# Altium integrated library Capacitor - Aluminium TH.IntLib: 4591 symbols (part 39 of 68)
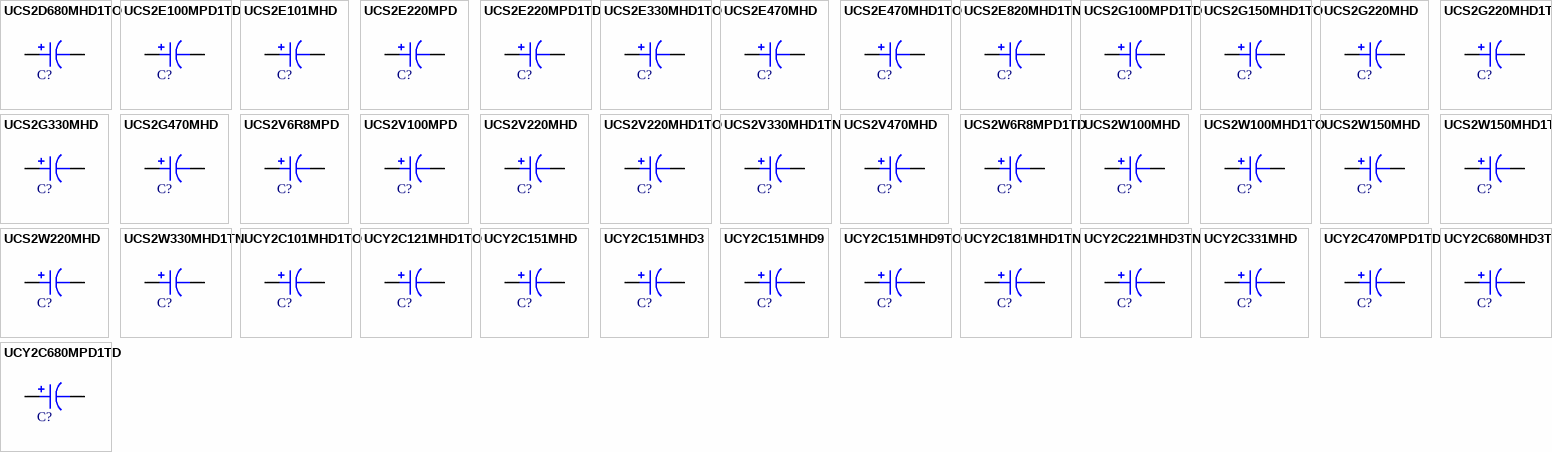
[diagram p152: symbols UCS2D680MHD1TO to UCY2C680MPD1TD]

## UCS2D680MHD1TO
designator C?, comment 68uF  (value not drawn)
CAP ALUM 68UF 20% 200V RADIAL; Part Number: UCS2D680MHD1TO; Manufacturer: Nichicon; TemperatureRange: -40C ~ 105C; Type: Polar; Ripple Current: 650mA @ 120Hz; Value: 68uF; PartId: 23007; Supplier 1: Digi-Key; Supplier Part Number 1: 493-4743-1-ND; ComponentLink1Description: Datasheet; ComponentLink1URL: http://nichicon-us.com/english/products/pdfs/e-ucs.pdf; ComponentLink2Description: Digi-Key Listing; ComponentLink2URL: https://www.digikey.com/product-detail/en/nichicon/UCS2D680MHD1TO/493-4743-1-ND/3128733; Tolerance: 20%; Voltage: 200V; Price: 0; Device Package: Radial, Can, 12.5mm
footprint CAP AL TH D12.5 L5 H21.5
pins: 1, 2

## UCS2E100MPD1TD
designator C?, comment 10uF  (value not drawn)
CAP ALUM 10UF 20% 250V RADIAL; Part Number: UCS2E100MPD1TD; Manufacturer: Nichicon; TemperatureRange: -40C ~ 105C; Type: Polar; Ripple Current: 175mA @ 120Hz; Value: 10uF; PartId: 25457; Supplier 1: Digi-Key; Supplier Part Number 1: 493-4744-3-ND; ComponentLink1Description: Datasheet; ComponentLink1URL: http://nichicon-us.com/english/products/pdfs/e-ucs.pdf; ComponentLink2Description: Digi-Key Listing; ComponentLink2URL: https://www.digikey.com/product-detail/en/nichicon/UCS2E100MPD1TD/493-4744-3-ND/3128718; Tolerance: 20%; Voltage: 250V; Price: 0.249; Device Package: Radial, Can, 10mm
footprint CAP AL TH D10 L5 H22
pins: 1, 2

## UCS2E101MHD
designator C?, comment 100uF  (value not drawn)
CAP ALUM 100UF 20% 250V RADIAL; Part Number: UCS2E101MHD; Manufacturer: Nichicon; TemperatureRange: -40C ~ 105C; Type: Polar; Ripple Current: 765mA @ 120Hz; Value: 100uF; PartId: 26614; Supplier 1: Digi-Key; Supplier Part Number 1: 493-5871-ND; ComponentLink1Description: Datasheet; ComponentLink1URL: http://nichicon-us.com/english/products/pdfs/e-ucs.pdf; ComponentLink2Description: Digi-Key Listing; ComponentLink2URL: https://www.digikey.com/product-detail/en/nichicon/UCS2E101MHD/493-5871-ND/3438505; Tolerance: 20%; Voltage: 250V; Price: 1.4; Device Package: Radial, Can, 16mm
footprint CAP AL TH D16 L7.5 H26.5
pins: 1, 2

## UCS2E220MPD
designator C?, comment 22uF  (value not drawn)
CAP ALUM 22UF 20% 250V RADIAL; Part Number: UCS2E220MPD; Manufacturer: Nichicon; TemperatureRange: -40C ~ 105C; Type: Polar; Ripple Current: 250mA @ 120Hz; Value: 22uF; PartId: 25584; Supplier 1: Digi-Key; Supplier Part Number 1: 493-5872-ND; ComponentLink1Description: Datasheet; ComponentLink1URL: http://nichicon-us.com/english/products/pdfs/e-ucs.pdf; ComponentLink2Description: Digi-Key Listing; ComponentLink2URL: https://www.digikey.com/product-detail/en/nichicon/UCS2E220MPD/493-5872-ND/3438506; Tolerance: 20%; Voltage: 250V; Price: 0.67; Device Package: Radial, Can, 10mm
footprint CAP AL TH D10 L5 H22
pins: 1, 2

## UCS2E220MPD1TD
designator C?, comment 22uF  (value not drawn)
CAP ALUM 22UF 20% 250V RADIAL; Part Number: UCS2E220MPD1TD; Manufacturer: Nichicon; TemperatureRange: -40C ~ 105C; Type: Polar; Ripple Current: 250mA @ 120Hz; Value: 22uF; PartId: 25466; Supplier 1: Digi-Key; Supplier Part Number 1: 493-4745-3-ND; ComponentLink1Description: Datasheet; ComponentLink1URL: http://nichicon-us.com/english/products/pdfs/e-ucs.pdf; ComponentLink2Description: Digi-Key Listing; ComponentLink2URL: https://www.digikey.com/product-detail/en/nichicon/UCS2E220MPD1TD/493-4745-3-ND/3128719; Tolerance: 20%; Voltage: 250V; Price: 0.2669; Device Package: Radial, Can, 10mm
footprint CAP AL TH D10 L5 H22
pins: 1, 2

## UCS2E330MHD1TO
designator C?, comment 33uF  (value not drawn)
CAP ALUM 33UF 20% 250V RADIAL; Part Number: UCS2E330MHD1TO; Manufacturer: Nichicon; TemperatureRange: -40C ~ 105C; Type: Polar; Ripple Current: 400mA @ 120Hz; Value: 33uF; PartId: 22993; Supplier 1: Digi-Key; Supplier Part Number 1: 493-4746-1-ND; ComponentLink1Description: Datasheet; ComponentLink1URL: http://nichicon-us.com/english/products/pdfs/e-ucs.pdf; ComponentLink2Description: Digi-Key Listing; ComponentLink2URL: https://www.digikey.com/product-detail/en/nichicon/UCS2E330MHD1TO/493-4746-1-ND/3128736; Tolerance: 20%; Voltage: 250V; Price: 0; Device Package: Radial, Can, 12.5mm
footprint CAP AL TH D12.5 L5 H21.5
pins: 1, 2

## UCS2E470MHD
designator C?, comment 47uF  (value not drawn)
CAP ALUM 47UF 20% 250V RADIAL; Part Number: UCS2E470MHD; Manufacturer: Nichicon; TemperatureRange: -40C ~ 105C; Type: Polar; Ripple Current: 490mA @ 120Hz; Value: 47uF; PartId: 22987; Supplier 1: Digi-Key; Supplier Part Number 1: 493-5873-ND; ComponentLink1Description: Datasheet; ComponentLink1URL: http://nichicon-us.com/english/products/pdfs/e-ucs.pdf; ComponentLink2Description: Digi-Key Listing; ComponentLink2URL: https://www.digikey.com/product-detail/en/nichicon/UCS2E470MHD/493-5873-ND/3438507; Tolerance: 20%; Voltage: 250V; Price: 0; Device Package: Radial, Can, 12.5mm
footprint CAP AL TH D12.5 L5 H21.5
pins: 1, 2

## UCS2E470MHD1TO
designator C?, comment 47uF  (value not drawn)
CAP ALUM 47UF 20% 250V RADIAL; Part Number: UCS2E470MHD1TO; Manufacturer: Nichicon; TemperatureRange: -40C ~ 105C; Type: Polar; Ripple Current: 490mA @ 120Hz; Value: 47uF; PartId: 23010; Supplier 1: Digi-Key; Supplier Part Number 1: 493-13287-1-ND; ComponentLink1Description: Datasheet; ComponentLink1URL: http://nichicon-us.com/english/products/pdfs/e-ucs.pdf; ComponentLink2Description: Digi-Key Listing; ComponentLink2URL: https://www.digikey.com/product-detail/en/nichicon/UCS2E470MHD1TO/493-13287-1-ND/4333030; Tolerance: 20%; Voltage: 250V; Price: 0; Device Package: Radial, Can, 12.5mm
footprint CAP AL TH D12.5 L5 H21.5
pins: 1, 2

## UCS2E820MHD1TN
designator C?, comment 82uF  (value not drawn)
CAP ALUM 82UF 20% 250V RADIAL; Part Number: UCS2E820MHD1TN; Manufacturer: Nichicon; TemperatureRange: -40C ~ 105C; Type: Polar; Ripple Current: 690mA @ 120Hz; Value: 82uF; PartId: 26378; Supplier 1: Digi-Key; Supplier Part Number 1: 493-13288-3-ND; ComponentLink1Description: Datasheet; ComponentLink1URL: http://nichicon-us.com/english/products/pdfs/e-ucs.pdf; ComponentLink2Description: Digi-Key Listing; ComponentLink2URL: https://www.digikey.com/product-detail/en/nichicon/UCS2E820MHD1TN/493-13288-3-ND/4332919; Tolerance: 20%; Voltage: 250V; Price: 0.7008; Device Package: Radial, Can, 16mm
footprint CAP AL TH D16 L7.5 H22
pins: 1, 2

## UCS2G100MPD1TD
designator C?, comment 10uF  (value not drawn)
CAP ALUM 10UF 20% 400V RADIAL; Part Number: UCS2G100MPD1TD; Manufacturer: Nichicon; TemperatureRange: -40C ~ 105C; Type: Polar; Ripple Current: 175mA @ 120Hz; Value: 10uF; PartId: 25799; Supplier 1: Digi-Key; Supplier Part Number 1: 493-7383-3-ND; ComponentLink1Description: Datasheet; ComponentLink1URL: http://nichicon-us.com/english/products/pdfs/e-ucs.pdf; ComponentLink2Description: Digi-Key Listing; ComponentLink2URL: https://www.digikey.com/product-detail/en/nichicon/UCS2G100MPD1TD/493-7383-3-ND/3768673; Tolerance: 20%; Voltage: 400V; Price: 0.2808; Device Package: Radial, Can, 10mm
footprint CAP AL TH D10 L5 H22
pins: 1, 2

## UCS2G150MHD1TO
designator C?, comment 15uF  (value not drawn)
CAP ALUM 15UF 20% 400V RADIAL; Part Number: UCS2G150MHD1TO; Manufacturer: Nichicon; TemperatureRange: -40C ~ 105C; Type: Polar; Ripple Current: 275mA @ 120Hz; Value: 15uF; PartId: 23178; Supplier 1: Digi-Key; Supplier Part Number 1: 493-7384-3-ND; ComponentLink1Description: Datasheet; ComponentLink1URL: http://nichicon-us.com/english/products/pdfs/e-ucs.pdf; ComponentLink2Description: Digi-Key Listing; ComponentLink2URL: https://www.digikey.com/product-detail/en/nichicon/UCS2G150MHD1TO/493-7384-3-ND/3768676; Tolerance: 20%; Voltage: 400V; Price: 0.3715; Device Package: Radial, Can, 12.5mm
footprint CAP AL TH D12.5 L5 H22
pins: 1, 2

## UCS2G220MHD
designator C?, comment 22uF  (value not drawn)
CAP ALUM 22UF 20% 400V RADIAL; Part Number: UCS2G220MHD; Manufacturer: Nichicon; TemperatureRange: -40C ~ 105C; Type: Polar; Ripple Current: 380mA @ 120Hz; Value: 22uF; PartId: 22995; Supplier 1: Digi-Key; Supplier Part Number 1: 493-5875-ND; ComponentLink1Description: Datasheet; ComponentLink1URL: http://nichicon-us.com/english/products/pdfs/e-ucs.pdf; ComponentLink2Description: Digi-Key Listing; ComponentLink2URL: https://www.digikey.com/product-detail/en/nichicon/UCS2G220MHD/493-5875-ND/3438508; Tolerance: 20%; Voltage: 400V; Price: 0; Device Package: Radial, Can, 12.5mm
footprint CAP AL TH D12.5 L5 H21.5
pins: 1, 2

## UCS2G220MHD1TO
designator C?, comment 22uF  (value not drawn)
CAP ALUM 22UF 20% 400V RADIAL; Part Number: UCS2G220MHD1TO; Manufacturer: Nichicon; TemperatureRange: -40C ~ 105C; Type: Polar; Ripple Current: 380mA @ 120Hz; Value: 22uF; PartId: 23459; Supplier 1: Digi-Key; Supplier Part Number 1: 493-13289-1-ND; ComponentLink1Description: Datasheet; ComponentLink1URL: http://nichicon-us.com/english/products/pdfs/e-ucs.pdf; ComponentLink2Description: Digi-Key Listing; ComponentLink2URL: https://www.digikey.com/product-detail/en/nichicon/UCS2G220MHD1TO/493-13289-1-ND/4333032; Tolerance: 20%; Voltage: 400V; Price: 1.05; Device Package: Radial, Can, 12.5mm
footprint CAP AL TH D12.5 L5 H22
pins: 1, 2

## UCS2G330MHD
designator C?, comment 33uF  (value not drawn)
CAP ALUM 33UF 20% 400V RADIAL; Part Number: UCS2G330MHD; Manufacturer: Nichicon; TemperatureRange: -40C ~ 105C; Type: Polar; Ripple Current: 450mA @ 120Hz; Value: 33uF; PartId: 26419; Supplier 1: Digi-Key; Supplier Part Number 1: 493-5876-ND; ComponentLink1Description: Datasheet; ComponentLink1URL: http://nichicon-us.com/english/products/pdfs/e-ucs.pdf; ComponentLink2Description: Digi-Key Listing; ComponentLink2URL: https://www.digikey.com/product-detail/en/nichicon/UCS2G330MHD/493-5876-ND/3438509; Tolerance: 20%; Voltage: 400V; Price: 1.21; Device Package: Radial, Can, 16mm
footprint CAP AL TH D16 L7.5 H22
pins: 1, 2

## UCS2G470MHD
designator C?, comment 47uF  (value not drawn)
CAP ALUM 47UF 20% 400V RADIAL; Part Number: UCS2G470MHD; Manufacturer: Nichicon; TemperatureRange: -40C ~ 105C; Type: Polar; Ripple Current: 590mA @ 120Hz; Value: 47uF; PartId: 26671; Supplier 1: Digi-Key; Supplier Part Number 1: 493-5877-ND; ComponentLink1Description: Datasheet; ComponentLink1URL: http://nichicon-us.com/english/products/pdfs/e-ucs.pdf; ComponentLink2Description: Digi-Key Listing; ComponentLink2URL: https://www.digikey.com/product-detail/en/nichicon/UCS2G470MHD/493-5877-ND/3438510; Tolerance: 20%; Voltage: 400V; Price: 1.73; Device Package: Radial, Can, 16mm
footprint CAP AL TH D16 L7.5 H26.5
pins: 1, 2

## UCS2V6R8MPD
designator C?, comment 6.8uF  (value not drawn)
CAP ALUM 6.8UF 20% 350V RADIAL; Part Number: UCS2V6R8MPD; Manufacturer: Nichicon; TemperatureRange: -40C ~ 105C; Type: Polar; Ripple Current: 140mA @ 120Hz; Value: 6.8uF; PartId: 25370; Supplier 1: Digi-Key; Supplier Part Number 1: 493-14365-ND; ComponentLink1Description: Datasheet; ComponentLink1URL: http://nichicon-us.com/english/products/pdfs/e-ucs.pdf; ComponentLink2Description: Digi-Key Listing; ComponentLink2URL: https://www.digikey.com/product-detail/en/nichicon/UCS2V6R8MPD/493-14365-ND/4991894; Tolerance: 20%; Voltage: 350V; Price: 0.72; Device Package: Radial, Can, 10mm
footprint CAP AL TH D10 L5 H17.5
pins: 1, 2

## UCS2V100MPD
designator C?, comment 10uF  (value not drawn)
CAP ALUM 10UF 20% 350V RADIAL; Part Number: UCS2V100MPD; Manufacturer: Nichicon; TemperatureRange: -40C ~ 105C; Type: Polar; Ripple Current: 175mA @ 120Hz; Value: 10uF; PartId: 25631; Supplier 1: Digi-Key; Supplier Part Number 1: 493-5880-ND; ComponentLink1Description: Datasheet; ComponentLink1URL: http://nichicon-us.com/english/products/pdfs/e-ucs.pdf; ComponentLink2Description: Digi-Key Listing; ComponentLink2URL: https://www.digikey.com/product-detail/en/nichicon/UCS2V100MPD/493-5880-ND/3438513; Tolerance: 20%; Voltage: 350V; Price: 0.72; Device Package: Radial, Can, 10mm
footprint CAP AL TH D10 L5 H22
pins: 1, 2

## UCS2V220MHD
designator C?, comment 22uF  (value not drawn)
CAP ALUM 22UF 20% 350V RADIAL; Part Number: UCS2V220MHD; Manufacturer: Nichicon; TemperatureRange: -40C ~ 105C; Type: Polar; Ripple Current: 325mA @ 120Hz; Value: 22uF; PartId: 22984; Supplier 1: Digi-Key; Supplier Part Number 1: 493-5881-ND; ComponentLink1Description: Datasheet; ComponentLink1URL: http://nichicon-us.com/english/products/pdfs/e-ucs.pdf; ComponentLink2Description: Digi-Key Listing; ComponentLink2URL: https://www.digikey.com/product-detail/en/nichicon/UCS2V220MHD/493-5881-ND/3438514; Tolerance: 20%; Voltage: 350V; Price: 0; Device Package: Radial, Can, 12.5mm
footprint CAP AL TH D12.5 L5 H21.5
pins: 1, 2

## UCS2V220MHD1TO
designator C?, comment 22uF  (value not drawn)
CAP ALUM 22UF 20% 350V RADIAL; Part Number: UCS2V220MHD1TO; Manufacturer: Nichicon; TemperatureRange: -40C ~ 105C; Type: Polar; Ripple Current: 325mA @ 120Hz; Value: 22uF; PartId: 23436; Supplier 1: Digi-Key; Supplier Part Number 1: 493-13296-1-ND; ComponentLink1Description: Datasheet; ComponentLink1URL: http://nichicon-us.com/english/products/pdfs/e-ucs.pdf; ComponentLink2Description: Digi-Key Listing; ComponentLink2URL: https://www.digikey.com/product-detail/en/nichicon/UCS2V220MHD1TO/493-13296-1-ND/4333039; Tolerance: 20%; Voltage: 350V; Price: 1.01; Device Package: Radial, Can, 12.5mm
footprint CAP AL TH D12.5 L5 H22
pins: 1, 2

## UCS2V330MHD1TN
designator C?, comment 33uF  (value not drawn)
CAP ALUM 33UF 20% 350V RADIAL; Part Number: UCS2V330MHD1TN; Manufacturer: Nichicon; TemperatureRange: -40C ~ 105C; Type: Polar; Ripple Current: 450mA @ 120Hz; Value: 33uF; PartId: 26373; Supplier 1: Digi-Key; Supplier Part Number 1: 493-4749-3-ND; ComponentLink1Description: Datasheet; ComponentLink1URL: http://nichicon-us.com/english/products/pdfs/e-ucs.pdf; ComponentLink2Description: Digi-Key Listing; ComponentLink2URL: https://www.digikey.com/product-detail/en/nichicon/UCS2V330MHD1TN/493-4749-3-ND/3128723; Tolerance: 20%; Voltage: 350V; Price: 0.614; Device Package: Radial, Can, 16mm
footprint CAP AL TH D16 L7.5 H22
pins: 1, 2

## UCS2V470MHD
designator C?, comment 47uF  (value not drawn)
CAP ALUM 47UF 20% 350V RADIAL; Part Number: UCS2V470MHD; Manufacturer: Nichicon; TemperatureRange: -40C ~ 105C; Type: Polar; Ripple Current: 540mA @ 120Hz; Value: 47uF; PartId: 26439; Supplier 1: Digi-Key; Supplier Part Number 1: 493-14944-ND; ComponentLink1Description: Datasheet; ComponentLink1URL: http://nichicon-us.com/english/products/pdfs/e-ucs.pdf; ComponentLink2Description: Digi-Key Listing; ComponentLink2URL: https://www.digikey.com/product-detail/en/nichicon/UCS2V470MHD/493-14944-ND/4991891; Tolerance: 20%; Voltage: 350V; Price: 1.37; Device Package: Radial, Can, 16mm
footprint CAP AL TH D16 L7.5 H22
pins: 1, 2

## UCS2W6R8MPD1TD
designator C?, comment 6.8uF  (value not drawn)
CAP ALUM 6.8UF 20% 450V RADIAL; Part Number: UCS2W6R8MPD1TD; Manufacturer: Nichicon; TemperatureRange: -25C ~ 105C; Type: Polar; Ripple Current: 140mA @ 120Hz; Value: 6.8uF; PartId: 25781; Supplier 1: Digi-Key; Supplier Part Number 1: 493-7386-3-ND; ComponentLink1Description: Datasheet; ComponentLink1URL: http://nichicon-us.com/english/products/pdfs/e-ucs.pdf; ComponentLink2Description: Digi-Key Listing; ComponentLink2URL: https://www.digikey.com/product-detail/en/nichicon/UCS2W6R8MPD1TD/493-7386-3-ND/3768682; Tolerance: 20%; Voltage: 450V; Price: 0.2498; Device Package: Radial, Can, 10mm
footprint CAP AL TH D10 L5 H22
pins: 1, 2

## UCS2W100MHD
designator C?, comment 10uF  (value not drawn)
CAP ALUM 10UF 20% 450V RADIAL; Part Number: UCS2W100MHD; Manufacturer: Nichicon; TemperatureRange: -25C ~ 105C; Type: Polar; Ripple Current: 225mA @ 120Hz; Value: 10uF; PartId: 22963; Supplier 1: Digi-Key; Supplier Part Number 1: 493-5882-ND; ComponentLink1Description: Datasheet; ComponentLink1URL: http://nichicon-us.com/english/products/pdfs/e-ucs.pdf; ComponentLink2Description: Digi-Key Listing; ComponentLink2URL: https://www.digikey.com/product-detail/en/nichicon/UCS2W100MHD/493-5882-ND/3438515; Tolerance: 20%; Voltage: 450V; Price: 0; Device Package: Radial, Can, 12.5mm
footprint CAP AL TH D12.5 L5 H21.5
pins: 1, 2

## UCS2W100MHD1TO
designator C?, comment 10uF  (value not drawn)
CAP ALUM 10UF 20% 450V RADIAL; Part Number: UCS2W100MHD1TO; Manufacturer: Nichicon; TemperatureRange: -25C ~ 105C; Type: Polar; Ripple Current: 225mA @ 120Hz; Value: 10uF; PartId: 23168; Supplier 1: Digi-Key; Supplier Part Number 1: 493-13298-3-ND; ComponentLink1Description: Datasheet; ComponentLink1URL: http://nichicon-us.com/english/products/pdfs/e-ucs.pdf; ComponentLink2Description: Digi-Key Listing; ComponentLink2URL: https://www.digikey.com/product-detail/en/nichicon/UCS2W100MHD1TO/493-13298-3-ND/4332929; Tolerance: 20%; Voltage: 450V; Price: 0.3394; Device Package: Radial, Can, 12.5mm
footprint CAP AL TH D12.5 L5 H22
pins: 1, 2

## UCS2W150MHD
designator C?, comment 15uF  (value not drawn)
CAP ALUM 15UF 20% 450V RADIAL; Part Number: UCS2W150MHD; Manufacturer: Nichicon; TemperatureRange: -25C ~ 105C; Type: Polar; Ripple Current: 300mA @ 120Hz; Value: 15uF; PartId: 23708; Supplier 1: Digi-Key; Supplier Part Number 1: 493-5883-ND; ComponentLink1Description: Datasheet; ComponentLink1URL: http://nichicon-us.com/english/products/pdfs/e-ucs.pdf; ComponentLink2Description: Digi-Key Listing; ComponentLink2URL: https://www.digikey.com/product-detail/en/nichicon/UCS2W150MHD/493-5883-ND/3438516; Tolerance: 20%; Voltage: 450V; Price: 1.16; Device Package: Radial, Can, 12.5mm
footprint CAP AL TH D12.5 L5 H26.5
pins: 1, 2

## UCS2W150MHD1TO
designator C?, comment 15uF  (value not drawn)
CAP ALUM 15UF 20% 450V RADIAL; Part Number: UCS2W150MHD1TO; Manufacturer: Nichicon; TemperatureRange: -25C ~ 105C; Type: Polar; Ripple Current: 300mA @ 120Hz; Value: 15uF; PartId: 24099; Supplier 1: Digi-Key; Supplier Part Number 1: 493-13299-1-ND; ComponentLink1Description: Datasheet; ComponentLink1URL: http://nichicon-us.com/english/products/pdfs/e-ucs.pdf; ComponentLink2Description: Digi-Key Listing; ComponentLink2URL: https://www.digikey.com/product-detail/en/nichicon/UCS2W150MHD1TO/493-13299-1-ND/4333042; Tolerance: 20%; Voltage: 450V; Price: 1.3; Device Package: Radial, Can, 12.5mm
footprint CAP AL TH D12.5 L5 H27
pins: 1, 2

## UCS2W220MHD
designator C?, comment 22uF  (value not drawn)
CAP ALUM 22UF 20% 450V RADIAL; Part Number: UCS2W220MHD; Manufacturer: Nichicon; TemperatureRange: -25C ~ 105C; Type: Polar; Ripple Current: 365mA @ 120Hz; Value: 22uF; PartId: 26409; Supplier 1: Digi-Key; Supplier Part Number 1: 493-5884-ND; ComponentLink1Description: Datasheet; ComponentLink1URL: http://nichicon-us.com/english/products/pdfs/e-ucs.pdf; ComponentLink2Description: Digi-Key Listing; ComponentLink2URL: https://www.digikey.com/product-detail/en/nichicon/UCS2W220MHD/493-5884-ND/3438517; Tolerance: 20%; Voltage: 450V; Price: 1.03; Device Package: Radial, Can, 16mm
footprint CAP AL TH D16 L7.5 H22
pins: 1, 2

## UCS2W330MHD1TN
designator C?, comment 33uF  (value not drawn)
CAP ALUM 33UF 20% 450V RADIAL; Part Number: UCS2W330MHD1TN; Manufacturer: Nichicon; TemperatureRange: -25C ~ 105C; Type: Polar; Ripple Current: 490mA @ 120Hz; Value: 33uF; PartId: 26528; Supplier 1: Digi-Key; Supplier Part Number 1: 493-4754-3-ND; ComponentLink1Description: Datasheet; ComponentLink1URL: http://nichicon-us.com/english/products/pdfs/e-ucs.pdf; ComponentLink2Description: Digi-Key Listing; ComponentLink2URL: https://www.digikey.com/product-detail/en/nichicon/UCS2W330MHD1TN/493-4754-3-ND/3128728; Tolerance: 20%; Voltage: 450V; Price: 0.8348; Device Package: Radial, Can, 16mm
footprint CAP AL TH D16 L7.5 H26.5
pins: 1, 2

## UCY2C101MHD1TO
designator C?, comment 100uF  (value not drawn)
CAP ALUM 100UF 20% 160V RADIAL; Part Number: UCY2C101MHD1TO; Manufacturer: Nichicon; TemperatureRange: -40C ~ 105C; Type: Polar; Ripple Current: 645mA; Value: 100uF; PartId: 23038; Supplier 1: Digi-Key; Supplier Part Number 1: 493-4784-1-ND; ComponentLink1Description: Datasheet; ComponentLink1URL: http://nichicon-us.com/english/products/pdfs/e-ucy.pdf; ComponentLink2Description: Digi-Key Listing; ComponentLink2URL: https://www.digikey.com/product-detail/en/nichicon/UCY2C101MHD1TO/493-4784-1-ND/3129121; Tolerance: 20%; Voltage: 160V; Price: 0; Device Package: Radial, Can, 12.5mm
footprint CAP AL TH D12.5 L5 H21.5
pins: 1, 2

## UCY2C121MHD1TO
designator C?, comment 120uF  (value not drawn)
CAP ALUM 120UF 20% 160V RADIAL; Part Number: UCY2C121MHD1TO; Manufacturer: Nichicon; TemperatureRange: -40C ~ 105C; Type: Polar; Ripple Current: 760mA @ 120Hz; Value: 120uF; PartId: 23638; Supplier 1: Digi-Key; Supplier Part Number 1: 493-4785-3-ND; ComponentLink1Description: Datasheet; ComponentLink1URL: http://nichicon-us.com/english/products/pdfs/e-ucy.pdf; ComponentLink2Description: Digi-Key Listing; ComponentLink2URL: https://www.digikey.com/product-detail/en/nichicon/UCY2C121MHD1TO/493-4785-3-ND/3129790; Tolerance: 20%; Voltage: 160V; Price: 0.5295; Device Package: Radial, Can, 12.5mm
footprint CAP AL TH D12.5 L5 H26.5
pins: 1, 2

## UCY2C151MHD
designator C?, comment 150uF  (value not drawn)
CAP ALUM 150UF 20% 160V RADIAL; Part Number: UCY2C151MHD; Manufacturer: Nichicon; TemperatureRange: -40C ~ 105C; Type: Polar; Ripple Current: 905mA @ 120Hz; Value: 150uF; PartId: 24356; Supplier 1: Digi-Key; Supplier Part Number 1: 493-5445-ND; ComponentLink1Description: Datasheet; ComponentLink1URL: http://nichicon-us.com/english/products/pdfs/e-ucy.pdf; ComponentLink2Description: Digi-Key Listing; ComponentLink2URL: https://www.digikey.com/product-detail/en/nichicon/UCY2C151MHD/493-5445-ND/2597670; Tolerance: 20%; Voltage: 160V; Price: 1.46; Device Package: Radial, Can, 12.5mm
footprint CAP AL TH D12.5 L5 H35.5
pins: 1, 2

## UCY2C151MHD3
designator C?, comment 150uF  (value not drawn)
CAP ALUM 150UF 20% 160V RADIAL; Part Number: UCY2C151MHD3; Manufacturer: Nichicon; TemperatureRange: -40C ~ 105C; Type: Polar; Ripple Current: 945mA @ 120Hz; Value: 150uF; PartId: 26488; Supplier 1: Digi-Key; Supplier Part Number 1: UCY2C151MHD3-ND; ComponentLink1Description: Datasheet; ComponentLink1URL: http://nichicon-us.com/english/products/pdfs/e-ucy.pdf; ComponentLink2Description: Digi-Key Listing; ComponentLink2URL: https://www.digikey.com/product-detail/en/nichicon/UCY2C151MHD3/UCY2C151MHD3-ND/2597671; Tolerance: 20%; Voltage: 160V; Price: 1.84; Device Package: Radial, Can, 16mm
footprint CAP AL TH D16 L7.5 H22
pins: 1, 2

## UCY2C151MHD9
designator C?, comment 150uF  (value not drawn)
CAP ALUM 150UF 20% 160V RADIAL; Part Number: UCY2C151MHD9; Manufacturer: Nichicon; TemperatureRange: -40C ~ 105C; Type: Polar; Ripple Current: 760mA @ 120Hz; Value: 150uF; PartId: 23729; Supplier 1: Digi-Key; Supplier Part Number 1: 493-6961-ND; ComponentLink1Description: Datasheet; ComponentLink1URL: http://nichicon-us.com/english/products/pdfs/e-ucy.pdf; ComponentLink2Description: Digi-Key Listing; ComponentLink2URL: https://www.digikey.com/product-detail/en/nichicon/UCY2C151MHD9/493-6961-ND/3664354; Tolerance: 20%; Voltage: 160V; Price: 1.4; Device Package: Radial, Can, 12.5mm
footprint CAP AL TH D12.5 L5 H26.5
pins: 1, 2

## UCY2C151MHD9TO
designator C?, comment 150uF  (value not drawn)
CAP ALUM 150UF 20% 160V RADIAL; Part Number: UCY2C151MHD9TO; Manufacturer: Nichicon; TemperatureRange: -40C ~ 105C; Type: Polar; Ripple Current: 760mA; Value: 150uF; PartId: 23741; Supplier 1: Digi-Key; Supplier Part Number 1: 493-13302-1-ND; ComponentLink1Description: Datasheet; ComponentLink1URL: http://nichicon-us.com/english/products/pdfs/e-ucy.pdf; ComponentLink2Description: Digi-Key Listing; ComponentLink2URL: https://www.digikey.com/product-detail/en/nichicon/UCY2C151MHD9TO/493-13302-1-ND/4333061; Tolerance: 20%; Voltage: 160V; Price: 1.57; Device Package: Radial, Can, 12.5mm
footprint CAP AL TH D12.5 L5 H26.5
pins: 1, 2

## UCY2C181MHD1TN
designator C?, comment 180uF  (value not drawn)
CAP ALUM 180UF 20% 160V RADIAL; Part Number: UCY2C181MHD1TN; Manufacturer: Nichicon; TemperatureRange: -40C ~ 105C; Type: Polar; Ripple Current: 1A @ 120Hz; Value: 180uF; PartId: 26384; Supplier 1: Digi-Key; Supplier Part Number 1: 493-4787-3-ND; ComponentLink1Description: Datasheet; ComponentLink1URL: http://nichicon-us.com/english/products/pdfs/e-ucy.pdf; ComponentLink2Description: Digi-Key Listing; ComponentLink2URL: https://www.digikey.com/product-detail/en/nichicon/UCY2C181MHD1TN/493-4787-3-ND/3129792; Tolerance: 20%; Voltage: 160V; Price: 0.8046; Device Package: Radial, Can, 16mm
footprint CAP AL TH D16 L7.5 H22
pins: 1, 2

## UCY2C221MHD3TN
designator C?, comment 220uF  (value not drawn)
CAP ALUM 220UF 20% 160V RADIAL; Part Number: UCY2C221MHD3TN; Manufacturer: Nichicon; TemperatureRange: -40C ~ 105C; Type: Polar; Ripple Current: 1.185A @ 120Hz; Value: 220uF; PartId: 26532; Supplier 1: Digi-Key; Supplier Part Number 1: 493-4788-3-ND; ComponentLink1Description: Datasheet; ComponentLink1URL: http://nichicon-us.com/english/products/pdfs/e-ucy.pdf; ComponentLink2Description: Digi-Key Listing; ComponentLink2URL: https://www.digikey.com/product-detail/en/nichicon/UCY2C221MHD3TN/493-4788-3-ND/3129793; Tolerance: 20%; Voltage: 160V; Price: 0.9454; Device Package: Radial, Can, 16mm
footprint CAP AL TH D16 L7.5 H26.5
pins: 1, 2

## UCY2C331MHD
designator C?, comment 330uF  (value not drawn)
CAP ALUM 330UF 20% 160V RADIAL; Part Number: UCY2C331MHD; Manufacturer: Nichicon; TemperatureRange: -40C ~ 105C; Type: Polar; Ripple Current: 1.51A @ 120Hz; Value: 330uF; PartId: 27209; Supplier 1: Digi-Key; Supplier Part Number 1: 493-5447-ND; ComponentLink1Description: Datasheet; ComponentLink1URL: http://nichicon-us.com/english/products/pdfs/e-ucy.pdf; ComponentLink2Description: Digi-Key Listing; ComponentLink2URL: https://www.digikey.com/product-detail/en/nichicon/UCY2C331MHD/493-5447-ND/2597679; Tolerance: 20%; Voltage: 160V; Price: 2.21; Device Package: Radial, Can, 16mm
footprint CAP AL TH D16 L7.5 H33.5
pins: 1, 2

## UCY2C470MPD1TD
designator C?, comment 47uF  (value not drawn)
CAP ALUM 47UF 20% 160V RADIAL; Part Number: UCY2C470MPD1TD; Manufacturer: Nichicon; TemperatureRange: -40C ~ 105C; Type: Polar; Ripple Current: 375mA @ 120Hz; Value: 47uF; PartId: 25477; Supplier 1: Digi-Key; Supplier Part Number 1: 493-4793-3-ND; ComponentLink1Description: Datasheet; ComponentLink1URL: http://nichicon-us.com/english/products/pdfs/e-ucy.pdf; ComponentLink2Description: Digi-Key Listing; ComponentLink2URL: https://www.digikey.com/product-detail/en/nichicon/UCY2C470MPD1TD/493-4793-3-ND/3129798; Tolerance: 20%; Voltage: 160V; Price: 0.308; Device Package: Radial, Can, 10mm
footprint CAP AL TH D10 L5 H22
pins: 1, 2

## UCY2C680MHD3TO
designator C?, comment 68uF  (value not drawn)
CAP ALUM 68UF 20% 160V RADIAL; Part Number: UCY2C680MHD3TO; Manufacturer: Nichicon; TemperatureRange: -40C ~ 105C; Type: Polar; Ripple Current: 590mA; Value: 68uF; PartId: 23024; Supplier 1: Digi-Key; Supplier Part Number 1: 493-4795-1-ND; ComponentLink1Description: Datasheet; ComponentLink1URL: http://nichicon-us.com/english/products/pdfs/e-ucy.pdf; ComponentLink2Description: Digi-Key Listing; ComponentLink2URL: https://www.digikey.com/product-detail/en/nichicon/UCY2C680MHD3TO/493-4795-1-ND/3129132; Tolerance: 20%; Voltage: 160V; Price: 0; Device Package: Radial, Can, 12.5mm
footprint CAP AL TH D12.5 L5 H21.5
pins: 1, 2

## UCY2C680MPD1TD
designator C?, comment 68uF  (value not drawn)
CAP ALUM 68UF 20% 160V RADIAL; Part Number: UCY2C680MPD1TD; Manufacturer: Nichicon; TemperatureRange: -40C ~ 105C; Type: Polar; Ripple Current: 455mA @ 120Hz; Value: 68uF; PartId: 26023; Supplier 1: Digi-Key; Supplier Part Number 1: 493-4796-3-ND; ComponentLink1Description: Datasheet; ComponentLink1URL: http://nichicon-us.com/english/products/pdfs/e-ucy.pdf; ComponentLink2Description: Digi-Key Listing; ComponentLink2URL: https://www.digikey.com/product-detail/en/nichicon/UCY2C680MPD1TD/493-4796-3-ND/3129801; Tolerance: 20%; Voltage: 160V; Price: 0.4014; Device Package: Radial, Can, 10mm
footprint CAP AL TH D10 L5 H30
pins: 1, 2

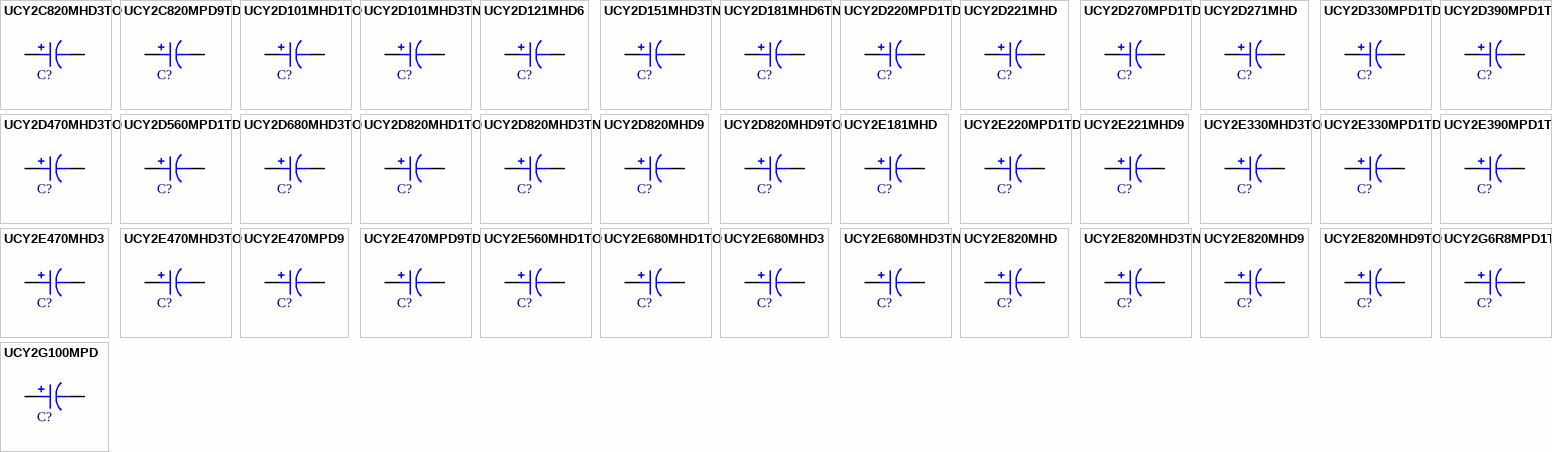
[diagram p64: symbols UCY2C820MHD3TO to UCY2G100MPD]

## UCY2C820MHD3TO
designator C?, comment 82uF  (value not drawn)
CAP ALUM 82UF 20% 160V RADIAL; Part Number: UCY2C820MHD3TO; Manufacturer: Nichicon; TemperatureRange: -40C ~ 105C; Type: Polar; Ripple Current: 640mA; Value: 82uF; PartId: 23032; Supplier 1: Digi-Key; Supplier Part Number 1: 493-4797-1-ND; ComponentLink1Description: Datasheet; ComponentLink1URL: http://nichicon-us.com/english/products/pdfs/e-ucy.pdf; ComponentLink2Description: Digi-Key Listing; ComponentLink2URL: https://www.digikey.com/product-detail/en/nichicon/UCY2C820MHD3TO/493-4797-1-ND/3129134; Tolerance: 20%; Voltage: 160V; Price: 0; Device Package: Radial, Can, 12.5mm
footprint CAP AL TH D12.5 L5 H21.5
pins: 1, 2

## UCY2C820MPD9TD
designator C?, comment 82uF  (value not drawn)
CAP ALUM 82UF 20% 160V RADIAL; Part Number: UCY2C820MPD9TD; Manufacturer: Nichicon; TemperatureRange: -40C ~ 105C; Type: Polar; Ripple Current: 455mA @ 120Hz; Value: 82uF; PartId: 26028; Supplier 1: Digi-Key; Supplier Part Number 1: 493-13092-3-ND; ComponentLink1Description: Datasheet; ComponentLink1URL: http://nichicon-us.com/english/products/pdfs/e-ucy.pdf; ComponentLink2Description: Digi-Key Listing; ComponentLink2URL: https://www.digikey.com/product-detail/en/nichicon/UCY2C820MPD9TD/493-13092-3-ND/4332723; Tolerance: 20%; Voltage: 160V; Price: 0.4383; Device Package: Radial, Can, 10mm
footprint CAP AL TH D10 L5 H30
pins: 1, 2

## UCY2D101MHD1TO
designator C?, comment 100uF  (value not drawn)
CAP ALUM 100UF 20% 200V RADIAL; Part Number: UCY2D101MHD1TO; Manufacturer: Nichicon; TemperatureRange: -40C ~ 105C; Type: Polar; Ripple Current: 695mA @ 120Hz; Value: 100uF; PartId: 23641; Supplier 1: Digi-Key; Supplier Part Number 1: 493-4798-3-ND; ComponentLink1Description: Datasheet; ComponentLink1URL: http://nichicon-us.com/english/products/pdfs/e-ucy.pdf; ComponentLink2Description: Digi-Key Listing; ComponentLink2URL: https://www.digikey.com/product-detail/en/nichicon/UCY2D101MHD1TO/493-4798-3-ND/3129803; Tolerance: 20%; Voltage: 200V; Price: 0.6691; Device Package: Radial, Can, 12.5mm
footprint CAP AL TH D12.5 L5 H26.5
pins: 1, 2

## UCY2D101MHD3TN
designator C?, comment 100uF  (value not drawn)
CAP ALUM 100UF 20% 200V RADIAL; Part Number: UCY2D101MHD3TN; Manufacturer: Nichicon; TemperatureRange: -40C ~ 105C; Type: Polar; Ripple Current: 710mA @ 120Hz; Value: 100uF; PartId: 26395; Supplier 1: Digi-Key; Supplier Part Number 1: 493-13304-3-ND; ComponentLink1Description: Datasheet; ComponentLink1URL: http://nichicon-us.com/english/products/pdfs/e-ucy.pdf; ComponentLink2Description: Digi-Key Listing; ComponentLink2URL: https://www.digikey.com/product-detail/en/nichicon/UCY2D101MHD3TN/493-13304-3-ND/4332935; Tolerance: 20%; Voltage: 200V; Price: 0.8528; Device Package: Radial, Can, 16mm
footprint CAP AL TH D16 L7.5 H22
pins: 1, 2

## UCY2D121MHD6
designator C?, comment 120uF  (value not drawn)
CAP ALUM 120UF 20% 200V RADIAL; Part Number: UCY2D121MHD6; Manufacturer: Nichicon; TemperatureRange: -40C ~ 105C; Type: Polar; Ripple Current: 810mA @ 120Hz; Value: 120uF; PartId: 24359; Supplier 1: Digi-Key; Supplier Part Number 1: 493-5451-ND; ComponentLink1Description: Datasheet; ComponentLink1URL: http://nichicon-us.com/english/products/pdfs/e-ucy.pdf; ComponentLink2Description: Digi-Key Listing; ComponentLink2URL: https://www.digikey.com/product-detail/en/nichicon/UCY2D121MHD6/493-5451-ND/2597693; Tolerance: 20%; Voltage: 200V; Price: 1.55; Device Package: Radial, Can, 12.5mm
footprint CAP AL TH D12.5 L5 H35.5
pins: 1, 2

## UCY2D151MHD3TN
designator C?, comment 150uF  (value not drawn)
CAP ALUM 150UF 20% 200V RADIAL; Part Number: UCY2D151MHD3TN; Manufacturer: Nichicon; TemperatureRange: -40C ~ 105C; Type: Polar; Ripple Current: 945mA @ 120Hz; Value: 150uF; PartId: 26535; Supplier 1: Digi-Key; Supplier Part Number 1: 493-4800-3-ND; ComponentLink1Description: Datasheet; ComponentLink1URL: http://nichicon-us.com/english/products/pdfs/e-ucy.pdf; ComponentLink2Description: Digi-Key Listing; ComponentLink2URL: https://www.digikey.com/product-detail/en/nichicon/UCY2D151MHD3TN/493-4800-3-ND/3129805; Tolerance: 20%; Voltage: 200V; Price: 0.9599; Device Package: Radial, Can, 16mm
footprint CAP AL TH D16 L7.5 H26.5
pins: 1, 2

## UCY2D181MHD6TN
designator C?, comment 180uF  (value not drawn)
CAP ALUM 180UF 20% 200V RADIAL; Part Number: UCY2D181MHD6TN; Manufacturer: Nichicon; TemperatureRange: -40C ~ 105C; Type: Polar; Ripple Current: 1.035A @ 120Hz; Value: 180uF; PartId: 26543; Supplier 1: Digi-Key; Supplier Part Number 1: 493-4802-3-ND; ComponentLink1Description: Datasheet; ComponentLink1URL: http://nichicon-us.com/english/products/pdfs/e-ucy.pdf; ComponentLink2Description: Digi-Key Listing; ComponentLink2URL: https://www.digikey.com/product-detail/en/nichicon/UCY2D181MHD6TN/493-4802-3-ND/3129807; Tolerance: 20%; Voltage: 200V; Price: 1.0076; Device Package: Radial, Can, 16mm
footprint CAP AL TH D16 L7.5 H26.5
pins: 1, 2

## UCY2D220MPD1TD
designator C?, comment 22uF  (value not drawn)
CAP ALUM 22UF 20% 200V RADIAL; Part Number: UCY2D220MPD1TD; Manufacturer: Nichicon; TemperatureRange: -40C ~ 105C; Type: Polar; Ripple Current: 225mA @ 120Hz; Value: 22uF; PartId: 25098; Supplier 1: Digi-Key; Supplier Part Number 1: 493-4803-3-ND; ComponentLink1Description: Datasheet; ComponentLink1URL: http://nichicon-us.com/english/products/pdfs/e-ucy.pdf; ComponentLink2Description: Digi-Key Listing; ComponentLink2URL: https://www.digikey.com/product-detail/en/nichicon/UCY2D220MPD1TD/493-4803-3-ND/3129808; Tolerance: 20%; Voltage: 200V; Price: 0.2793; Device Package: Radial, Can, 10mm
footprint CAP AL TH D10 L5 H17.5
pins: 1, 2

## UCY2D221MHD
designator C?, comment 220uF  (value not drawn)
CAP ALUM 220UF 20% 200V RADIAL; Part Number: UCY2D221MHD; Manufacturer: Nichicon; TemperatureRange: -40C ~ 105C; Type: Polar; Ripple Current: 1.23A @ 120Hz; Value: 220uF; PartId: 27200; Supplier 1: Digi-Key; Supplier Part Number 1: 493-5454-ND; ComponentLink1Description: Datasheet; ComponentLink1URL: http://nichicon-us.com/english/products/pdfs/e-ucy.pdf; ComponentLink2Description: Digi-Key Listing; ComponentLink2URL: https://www.digikey.com/product-detail/en/nichicon/UCY2D221MHD/493-5454-ND/2597700; Tolerance: 20%; Voltage: 200V; Price: 2.09; Device Package: Radial, Can, 16mm
footprint CAP AL TH D16 L7.5 H33.5
pins: 1, 2

## UCY2D270MPD1TD
designator C?, comment 27uF  (value not drawn)
CAP ALUM 27UF 20% 200V RADIAL; Part Number: UCY2D270MPD1TD; Manufacturer: Nichicon; TemperatureRange: -40C ~ 105C; Type: Polar; Ripple Current: 235mA @ 120Hz; Value: 27uF; PartId: 25108; Supplier 1: Digi-Key; Supplier Part Number 1: 493-4805-3-ND; ComponentLink1Description: Datasheet; ComponentLink1URL: http://nichicon-us.com/english/products/pdfs/e-ucy.pdf; ComponentLink2Description: Digi-Key Listing; ComponentLink2URL: https://www.digikey.com/product-detail/en/nichicon/UCY2D270MPD1TD/493-4805-3-ND/3129810; Tolerance: 20%; Voltage: 200V; Price: 0.2956; Device Package: Radial, Can, 10mm
footprint CAP AL TH D10 L5 H17.5
pins: 1, 2

## UCY2D271MHD
designator C?, comment 270uF  (value not drawn)
CAP ALUM 270UF 20% 200V RADIAL; Part Number: UCY2D271MHD; Manufacturer: Nichicon; TemperatureRange: -40C ~ 105C; Type: Polar; Ripple Current: 1.4A @ 120Hz; Value: 270uF; PartId: 27415; Supplier 1: Digi-Key; Supplier Part Number 1: 493-5455-ND; ComponentLink1Description: Datasheet; ComponentLink1URL: http://nichicon-us.com/english/products/pdfs/e-ucy.pdf; ComponentLink2Description: Digi-Key Listing; ComponentLink2URL: https://www.digikey.com/product-detail/en/nichicon/UCY2D271MHD/493-5455-ND/2597703; Tolerance: 20%; Voltage: 200V; Price: 2.51; Device Package: Radial, Can, 16mm
footprint CAP AL TH D16 L7.5 H37
pins: 1, 2

## UCY2D330MPD1TD
designator C?, comment 33uF  (value not drawn)
CAP ALUM 33UF 20% 200V RADIAL; Part Number: UCY2D330MPD1TD; Manufacturer: Nichicon; TemperatureRange: -40C ~ 105C; Type: Polar; Ripple Current: 305mA @ 120Hz; Value: 33uF; PartId: 25483; Supplier 1: Digi-Key; Supplier Part Number 1: 493-4806-3-ND; ComponentLink1Description: Datasheet; ComponentLink1URL: http://nichicon-us.com/english/products/pdfs/e-ucy.pdf; ComponentLink2Description: Digi-Key Listing; ComponentLink2URL: https://www.digikey.com/product-detail/en/nichicon/UCY2D330MPD1TD/493-4806-3-ND/3129811; Tolerance: 20%; Voltage: 200V; Price: 0.3332; Device Package: Radial, Can, 10mm
footprint CAP AL TH D10 L5 H22
pins: 1, 2

## UCY2D390MPD1TD
designator C?, comment 39uF  (value not drawn)
CAP ALUM 39UF 20% 200V RADIAL; Part Number: UCY2D390MPD1TD; Manufacturer: Nichicon; TemperatureRange: -40C ~ 105C; Type: Polar; Ripple Current: 325mA @ 120Hz; Value: 39uF; PartId: 25485; Supplier 1: Digi-Key; Supplier Part Number 1: 493-4807-3-ND; ComponentLink1Description: Datasheet; ComponentLink1URL: http://nichicon-us.com/english/products/pdfs/e-ucy.pdf; ComponentLink2Description: Digi-Key Listing; ComponentLink2URL: https://www.digikey.com/product-detail/en/nichicon/UCY2D390MPD1TD/493-4807-3-ND/3129812; Tolerance: 20%; Voltage: 200V; Price: 0.3411; Device Package: Radial, Can, 10mm
footprint CAP AL TH D10 L5 H22
pins: 1, 2

## UCY2D470MHD3TO
designator C?, comment 47uF  (value not drawn)
CAP ALUM 47UF 20% 200V RADIAL; Part Number: UCY2D470MHD3TO; Manufacturer: Nichicon; TemperatureRange: -40C ~ 105C; Type: Polar; Ripple Current: 490mA; Value: 47uF; PartId: 23033; Supplier 1: Digi-Key; Supplier Part Number 1: 493-4808-1-ND; ComponentLink1Description: Datasheet; ComponentLink1URL: http://nichicon-us.com/english/products/pdfs/e-ucy.pdf; ComponentLink2Description: Digi-Key Listing; ComponentLink2URL: https://www.digikey.com/product-detail/en/nichicon/UCY2D470MHD3TO/493-4808-1-ND/3129145; Tolerance: 20%; Voltage: 200V; Price: 0; Device Package: Radial, Can, 12.5mm
footprint CAP AL TH D12.5 L5 H21.5
pins: 1, 2

## UCY2D560MPD1TD
designator C?, comment 56uF  (value not drawn)
CAP ALUM 56UF 20% 200V RADIAL; Part Number: UCY2D560MPD1TD; Manufacturer: Nichicon; TemperatureRange: -40C ~ 105C; Type: Polar; Ripple Current: 415mA @ 120Hz; Value: 56uF; PartId: 26027; Supplier 1: Digi-Key; Supplier Part Number 1: 493-4809-3-ND; ComponentLink1Description: Datasheet; ComponentLink1URL: http://nichicon-us.com/english/products/pdfs/e-ucy.pdf; ComponentLink2Description: Digi-Key Listing; ComponentLink2URL: https://www.digikey.com/product-detail/en/nichicon/UCY2D560MPD1TD/493-4809-3-ND/3129814; Tolerance: 20%; Voltage: 200V; Price: 0.4253; Device Package: Radial, Can, 10mm
footprint CAP AL TH D10 L5 H30
pins: 1, 2

## UCY2D680MHD3TO
designator C?, comment 68uF  (value not drawn)
CAP ALUM 68UF 20% 200V RADIAL; Part Number: UCY2D680MHD3TO; Manufacturer: Nichicon; TemperatureRange: -40C ~ 105C; Type: Polar; Ripple Current: 650mA; Value: 68uF; PartId: 23035; Supplier 1: Digi-Key; Supplier Part Number 1: 493-4810-1-ND; ComponentLink1Description: Datasheet; ComponentLink1URL: http://nichicon-us.com/english/products/pdfs/e-ucy.pdf; ComponentLink2Description: Digi-Key Listing; ComponentLink2URL: https://www.digikey.com/product-detail/en/nichicon/UCY2D680MHD3TO/493-4810-1-ND/3129147; Tolerance: 20%; Voltage: 200V; Price: 0; Device Package: Radial, Can, 12.5mm
footprint CAP AL TH D12.5 L5 H21.5
pins: 1, 2

## UCY2D820MHD1TO
designator C?, comment 82uF  (value not drawn)
CAP ALUM 82UF 20% 200V RADIAL; Part Number: UCY2D820MHD1TO; Manufacturer: Nichicon; TemperatureRange: -40C ~ 105C; Type: Polar; Ripple Current: 645mA @ 120Hz; Value: 82uF; PartId: 23639; Supplier 1: Digi-Key; Supplier Part Number 1: 493-4811-3-ND; ComponentLink1Description: Datasheet; ComponentLink1URL: http://nichicon-us.com/english/products/pdfs/e-ucy.pdf; ComponentLink2Description: Digi-Key Listing; ComponentLink2URL: https://www.digikey.com/product-detail/en/nichicon/UCY2D820MHD1TO/493-4811-3-ND/3129816; Tolerance: 20%; Voltage: 200V; Price: 0.5819; Device Package: Radial, Can, 12.5mm
footprint CAP AL TH D12.5 L5 H26.5
pins: 1, 2

## UCY2D820MHD3TN
designator C?, comment 82uF  (value not drawn)
CAP ALUM 82UF 20% 200V RADIAL; Part Number: UCY2D820MHD3TN; Manufacturer: Nichicon; TemperatureRange: -40C ~ 105C; Type: Polar; Ripple Current: 690mA @ 120Hz; Value: 82uF; PartId: 26381; Supplier 1: Digi-Key; Supplier Part Number 1: 493-4812-3-ND; ComponentLink1Description: Datasheet; ComponentLink1URL: http://nichicon-us.com/english/products/pdfs/e-ucy.pdf; ComponentLink2Description: Digi-Key Listing; ComponentLink2URL: https://www.digikey.com/product-detail/en/nichicon/UCY2D820MHD3TN/493-4812-3-ND/3129817; Tolerance: 20%; Voltage: 200V; Price: 0.763; Device Package: Radial, Can, 16mm
footprint CAP AL TH D16 L7.5 H22
pins: 1, 2

## UCY2D820MHD9
designator C?, comment 82uF  (value not drawn)
CAP ALUM 82UF 20% 200V RADIAL; Part Number: UCY2D820MHD9; Manufacturer: Nichicon; TemperatureRange: -40C ~ 105C; Type: Polar; Ripple Current: 645mA @ 120Hz; Value: 82uF; PartId: 23034; Supplier 1: Digi-Key; Supplier Part Number 1: 493-6833-ND; ComponentLink1Description: Datasheet; ComponentLink1URL: http://nichicon-us.com/english/products/pdfs/e-ucy.pdf; ComponentLink2Description: Digi-Key Listing; ComponentLink2URL: https://www.digikey.com/product-detail/en/nichicon/UCY2D820MHD9/493-6833-ND/3664418; Tolerance: 20%; Voltage: 200V; Price: 0; Device Package: Radial, Can, 12.5mm
footprint CAP AL TH D12.5 L5 H21.5
pins: 1, 2

## UCY2D820MHD9TO
designator C?, comment 82uF  (value not drawn)
CAP ALUM 82UF 20% 200V RADIAL; Part Number: UCY2D820MHD9TO; Manufacturer: Nichicon; TemperatureRange: -40C ~ 105C; Type: Polar; Ripple Current: 645mA; Value: 82uF; PartId: 23048; Supplier 1: Digi-Key; Supplier Part Number 1: 493-13307-1-ND; ComponentLink1Description: Datasheet; ComponentLink1URL: http://nichicon-us.com/english/products/pdfs/e-ucy.pdf; ComponentLink2Description: Digi-Key Listing; ComponentLink2URL: https://www.digikey.com/product-detail/en/nichicon/UCY2D820MHD9TO/493-13307-1-ND/4333063; Tolerance: 20%; Voltage: 200V; Price: 0; Device Package: Radial, Can, 12.5mm
footprint CAP AL TH D12.5 L5 H21.5
pins: 1, 2

## UCY2E181MHD
designator C?, comment 180uF  (value not drawn)
CAP ALUM 180UF 20% 250V RADIAL; Part Number: UCY2E181MHD; Manufacturer: Nichicon; TemperatureRange: -40C ~ 105C; Type: Polar; Ripple Current: 1.11A @ 120Hz; Value: 180uF; PartId: 27242; Supplier 1: Digi-Key; Supplier Part Number 1: 493-13073-ND; ComponentLink1Description: Datasheet; ComponentLink1URL: http://nichicon-us.com/english/products/pdfs/e-ucy.pdf; ComponentLink2Description: Digi-Key Listing; ComponentLink2URL: https://www.digikey.com/product-detail/en/nichicon/UCY2E181MHD/493-13073-ND/2597722; Tolerance: 20%; Voltage: 250V; Price: 2.55; Device Package: Radial, Can, 16mm
footprint CAP AL TH D16 L7.5 H33.5
pins: 1, 2

## UCY2E220MPD1TD
designator C?, comment 22uF  (value not drawn)
CAP ALUM 22UF 20% 250V RADIAL; Part Number: UCY2E220MPD1TD; Manufacturer: Nichicon; TemperatureRange: -40C ~ 105C; Type: Polar; Ripple Current: 225mA @ 120Hz; Value: 22uF; PartId: 25110; Supplier 1: Digi-Key; Supplier Part Number 1: 493-13310-3-ND; ComponentLink1Description: Datasheet; ComponentLink1URL: http://nichicon-us.com/english/products/pdfs/e-ucy.pdf; ComponentLink2Description: Digi-Key Listing; ComponentLink2URL: https://www.digikey.com/product-detail/en/nichicon/UCY2E220MPD1TD/493-13310-3-ND/4332941; Tolerance: 20%; Voltage: 250V; Price: 0.3036; Device Package: Radial, Can, 10mm
footprint CAP AL TH D10 L5 H17.5
pins: 1, 2

## UCY2E221MHD9
designator C?, comment 220uF  (value not drawn)
CAP ALUM 220UF 20% 250V RADIAL; Part Number: UCY2E221MHD9; Manufacturer: Nichicon; TemperatureRange: -40C ~ 105C; Type: Polar; Ripple Current: 1.22A @ 120Hz; Value: 220uF; PartId: 27430; Supplier 1: Digi-Key; Supplier Part Number 1: 493-6855-ND; ComponentLink1Description: Datasheet; ComponentLink1URL: http://nichicon-us.com/english/products/pdfs/e-ucy.pdf; ComponentLink2Description: Digi-Key Listing; ComponentLink2URL: https://www.digikey.com/product-detail/en/nichicon/UCY2E221MHD9/493-6855-ND/3664454; Tolerance: 20%; Voltage: 250V; Price: 3.12; Device Package: Radial, Can, 16mm
footprint CAP AL TH D16 L7.5 H37
pins: 1, 2

## UCY2E330MHD3TO
designator C?, comment 33uF  (value not drawn)
CAP ALUM 33UF 20% 250V RADIAL; Part Number: UCY2E330MHD3TO; Manufacturer: Nichicon; TemperatureRange: -40C ~ 105C; Type: Polar; Ripple Current: 400mA; Value: 33uF; PartId: 23027; Supplier 1: Digi-Key; Supplier Part Number 1: 493-4816-1-ND; ComponentLink1Description: Datasheet; ComponentLink1URL: http://nichicon-us.com/english/products/pdfs/e-ucy.pdf; ComponentLink2Description: Digi-Key Listing; ComponentLink2URL: https://www.digikey.com/product-detail/en/nichicon/UCY2E330MHD3TO/493-4816-1-ND/3129153; Tolerance: 20%; Voltage: 250V; Price: 0; Device Package: Radial, Can, 12.5mm
footprint CAP AL TH D12.5 L5 H21.5
pins: 1, 2

## UCY2E330MPD1TD
designator C?, comment 33uF  (value not drawn)
CAP ALUM 33UF 20% 250V RADIAL; Part Number: UCY2E330MPD1TD; Manufacturer: Nichicon; TemperatureRange: -40C ~ 105C; Type: Polar; Ripple Current: 305mA @ 120Hz; Value: 33uF; PartId: 25486; Supplier 1: Digi-Key; Supplier Part Number 1: 493-4817-3-ND; ComponentLink1Description: Datasheet; ComponentLink1URL: http://nichicon-us.com/english/products/pdfs/e-ucy.pdf; ComponentLink2Description: Digi-Key Listing; ComponentLink2URL: https://www.digikey.com/product-detail/en/nichicon/UCY2E330MPD1TD/493-4817-3-ND/3129822; Tolerance: 20%; Voltage: 250V; Price: 0.3495; Device Package: Radial, Can, 10mm
footprint CAP AL TH D10 L5 H22
pins: 1, 2

## UCY2E390MPD1TD
designator C?, comment 39uF  (value not drawn)
CAP ALUM 39UF 20% 250V RADIAL; Part Number: UCY2E390MPD1TD; Manufacturer: Nichicon; TemperatureRange: -40C ~ 105C; Type: Polar; Ripple Current: 345mA @ 120Hz; Value: 39uF; PartId: 26029; Supplier 1: Digi-Key; Supplier Part Number 1: 493-4818-3-ND; ComponentLink1Description: Datasheet; ComponentLink1URL: http://nichicon-us.com/english/products/pdfs/e-ucy.pdf; ComponentLink2Description: Digi-Key Listing; ComponentLink2URL: https://www.digikey.com/product-detail/en/nichicon/UCY2E390MPD1TD/493-4818-3-ND/3129823; Tolerance: 20%; Voltage: 250V; Price: 0.441; Device Package: Radial, Can, 10mm
footprint CAP AL TH D10 L5 H30
pins: 1, 2

## UCY2E470MHD3
designator C?, comment 47uF  (value not drawn)
CAP ALUM 47UF 20% 250V RADIAL; Part Number: UCY2E470MHD3; Manufacturer: Nichicon; TemperatureRange: -40C ~ 105C; Type: Polar; Ripple Current: 490mA @ 120Hz; Value: 47uF; PartId: 23031; Supplier 1: Digi-Key; Supplier Part Number 1: 493-14381-ND; ComponentLink1Description: Datasheet; ComponentLink1URL: http://nichicon-us.com/english/products/pdfs/e-ucy.pdf; ComponentLink2Description: Digi-Key Listing; ComponentLink2URL: https://www.digikey.com/product-detail/en/nichicon/UCY2E470MHD3/493-14381-ND/2539807; Tolerance: 20%; Voltage: 250V; Price: 0; Device Package: Radial, Can, 12.5mm
footprint CAP AL TH D12.5 L5 H21.5
pins: 1, 2

## UCY2E470MHD3TO
designator C?, comment 47uF  (value not drawn)
CAP ALUM 47UF 20% 250V RADIAL; Part Number: UCY2E470MHD3TO; Manufacturer: Nichicon; TemperatureRange: -40C ~ 105C; Type: Polar; Ripple Current: 490mA; Value: 47uF; PartId: 23043; Supplier 1: Digi-Key; Supplier Part Number 1: 493-4819-1-ND; ComponentLink1Description: Datasheet; ComponentLink1URL: http://nichicon-us.com/english/products/pdfs/e-ucy.pdf; ComponentLink2Description: Digi-Key Listing; ComponentLink2URL: https://www.digikey.com/product-detail/en/nichicon/UCY2E470MHD3TO/493-4819-1-ND/3129156; Tolerance: 20%; Voltage: 250V; Price: 0; Device Package: Radial, Can, 12.5mm
footprint CAP AL TH D12.5 L5 H21.5
pins: 1, 2

## UCY2E470MPD9
designator C?, comment 47uF  (value not drawn)
CAP ALUM 47UF 20% 250V RADIAL; Part Number: UCY2E470MPD9; Manufacturer: Nichicon; TemperatureRange: -40C ~ 105C; Type: Polar; Ripple Current: 345mA @ 120Hz; Value: 47uF; PartId: 26182; Supplier 1: Digi-Key; Supplier Part Number 1: 493-6919-ND; ComponentLink1Description: Datasheet; ComponentLink1URL: http://nichicon-us.com/english/products/pdfs/e-ucy.pdf; ComponentLink2Description: Digi-Key Listing; ComponentLink2URL: https://www.digikey.com/product-detail/en/nichicon/UCY2E470MPD9/493-6919-ND/3664437; Tolerance: 20%; Voltage: 250V; Price: 1.01; Device Package: Radial, Can, 10mm
footprint CAP AL TH D10 L5 H30
pins: 1, 2

## UCY2E470MPD9TD
designator C?, comment 47uF  (value not drawn)
CAP ALUM 47UF 20% 250V RADIAL; Part Number: UCY2E470MPD9TD; Manufacturer: Nichicon; TemperatureRange: -40C ~ 105C; Type: Polar; Ripple Current: 345mA @ 120Hz; Value: 47uF; PartId: 26034; Supplier 1: Digi-Key; Supplier Part Number 1: 493-13093-3-ND; ComponentLink1Description: Datasheet; ComponentLink1URL: http://nichicon-us.com/english/products/pdfs/e-ucy.pdf; ComponentLink2Description: Digi-Key Listing; ComponentLink2URL: https://www.digikey.com/product-detail/en/nichicon/UCY2E470MPD9TD/493-13093-3-ND/4332724; Tolerance: 20%; Voltage: 250V; Price: 0.4522; Device Package: Radial, Can, 10mm
footprint CAP AL TH D10 L5 H30
pins: 1, 2

## UCY2E560MHD1TO
designator C?, comment 56uF  (value not drawn)
CAP ALUM 56UF 20% 250V RADIAL; Part Number: UCY2E560MHD1TO; Manufacturer: Nichicon; TemperatureRange: -40C ~ 105C; Type: Polar; Ripple Current: 515mA; Value: 56uF; PartId: 23052; Supplier 1: Digi-Key; Supplier Part Number 1: 493-4820-1-ND; ComponentLink1Description: Datasheet; ComponentLink1URL: http://nichicon-us.com/english/products/pdfs/e-ucy.pdf; ComponentLink2Description: Digi-Key Listing; ComponentLink2URL: https://www.digikey.com/product-detail/en/nichicon/UCY2E560MHD1TO/493-4820-1-ND/3129157; Tolerance: 20%; Voltage: 250V; Price: 0; Device Package: Radial, Can, 12.5mm
footprint CAP AL TH D12.5 L5 H21.5
pins: 1, 2